# Altium schematic symbol library HS.SchLib: 1 symbol
Pins are listed as number, name and electrical type; pins without a type are passive.

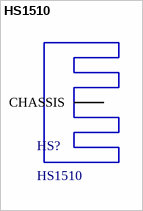
[diagram p0: symbol HS1510]

## HS1510
designator HS?
HeatSink HS1510
footprint HS1511_21
pins: 1 CHASSIS